# Altium schematic symbol library SCH - MCU - STM32 - ST MICROELECTRONICS STM32F051R4TX LQFP64.SchLib: 1 symbol
Pins are listed as number, name and electrical type; pins without a type are passive.

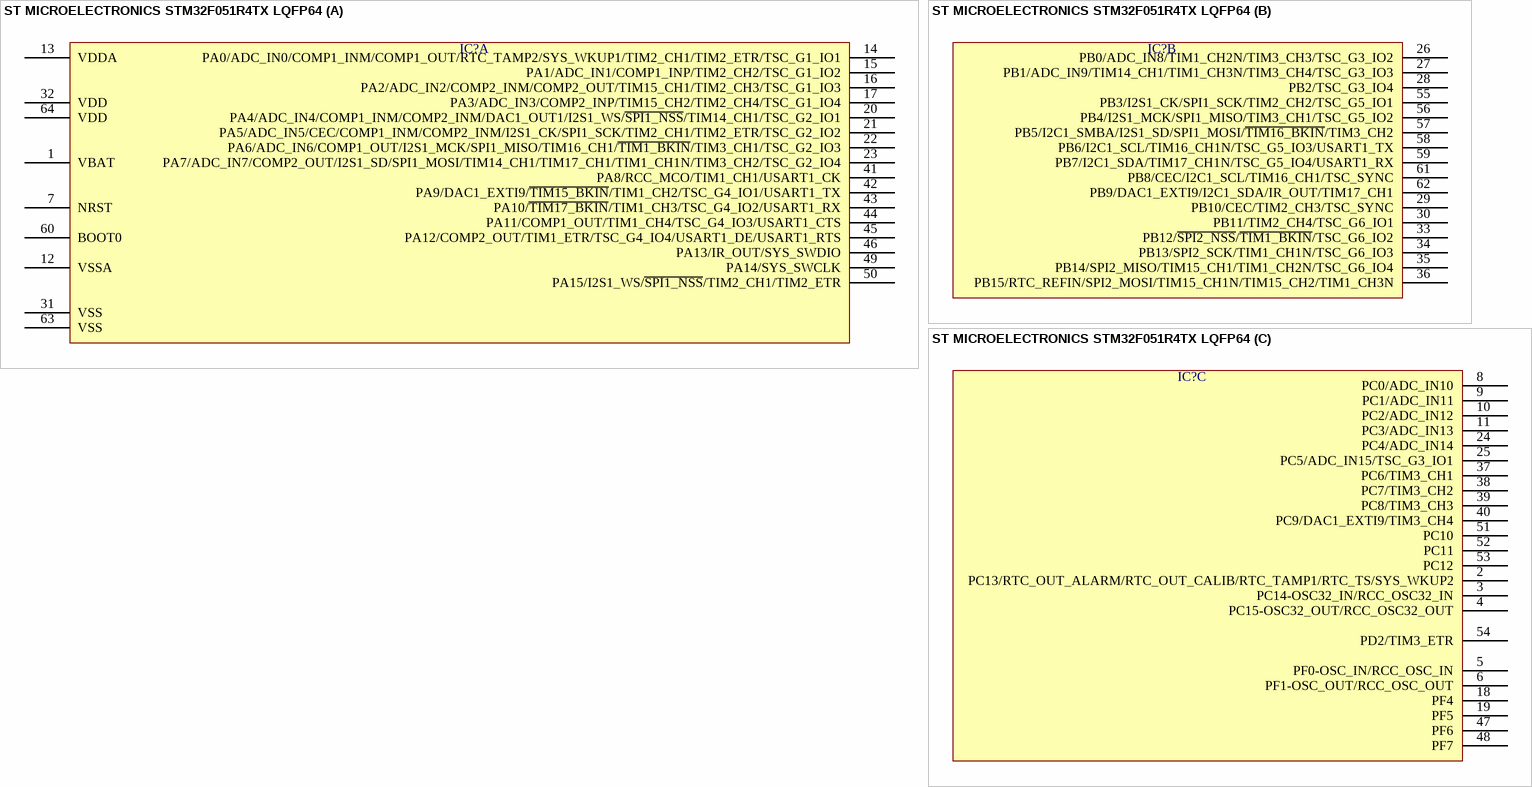
[diagram p0: symbol ST MICROELECTRONICS STM32F051R4TX LQFP64]

## ST MICROELECTRONICS STM32F051R4TX LQFP64
designator IC?  (value not drawn)
part A pins: 1 VBAT, 7 NRST, 12 VSSA, 13 VDDA, 14 PA0/ADC_IN0/COMP1_INM/COMP1_OUT/RTC_TAMP2/SYS_WKUP1/TIM2_CH1/TIM2_ETR/TSC_G1_IO1, 15 PA1/ADC_IN1/COMP1_INP/TIM2_CH2/TSC_G1_IO2, 16 PA2/ADC_IN2/COMP2_INM/COMP2_OUT/TIM15_CH1/TIM2_CH3/TSC_G1_IO3, 17 PA3/ADC_IN3/COMP2_INP/TIM15_CH2/TIM2_CH4/TSC_G1_IO4, 20 PA4/ADC_IN4/COMP1_INM/COMP2_INM/DAC1_OUT1/I2S1_WS/~{SPI1_NSS}/TIM14_CH1/TSC_G2_IO1, 21 PA5/ADC_IN5/CEC/COMP1_INM/COMP2_INM/I2S1_CK/SPI1_SCK/TIM2_CH1/TIM2_ETR/TSC_G2_IO2, 22 PA6/ADC_IN6/COMP1_OUT/I2S1_MCK/SPI1_MISO/TIM16_CH1/~{TIM1_BKIN}/TIM3_CH1/TSC_G2_IO3, 23 PA7/ADC_IN7/COMP2_OUT/I2S1_SD/SPI1_MOSI/TIM14_CH1/TIM17_CH1/TIM1_CH1N/TIM3_CH2/TSC_G2_IO4, 31 VSS, 32 VDD, 41 PA8/RCC_MCO/TIM1_CH1/USART1_CK, 42 PA9/DAC1_EXTI9/~{TIM15_BKIN}/TIM1_CH2/TSC_G4_IO1/USART1_TX, 43 PA10/~{TIM17_BKIN}/TIM1_CH3/TSC_G4_IO2/USART1_RX, 44 PA11/COMP1_OUT/TIM1_CH4/TSC_G4_IO3/USART1_CTS, 45 PA12/COMP2_OUT/TIM1_ETR/TSC_G4_IO4/USART1_DE/USART1_RTS, 46 PA13/IR_OUT/SYS_SWDIO, 49 PA14/SYS_SWCLK, 50 PA15/I2S1_WS/~{SPI1_NSS}/TIM2_CH1/TIM2_ETR, 60 BOOT0, 63 VSS, 64 VDD
part B pins: 26 PB0/ADC_IN8/TIM1_CH2N/TIM3_CH3/TSC_G3_IO2, 27 PB1/ADC_IN9/TIM14_CH1/TIM1_CH3N/TIM3_CH4/TSC_G3_IO3, 28 PB2/TSC_G3_IO4, 29 PB10/CEC/TIM2_CH3/TSC_SYNC, 30 PB11/TIM2_CH4/TSC_G6_IO1, 33 PB12/~{SPI2_NSS}/~{TIM1_BKIN}/TSC_G6_IO2, 34 PB13/SPI2_SCK/TIM1_CH1N/TSC_G6_IO3, 35 PB14/SPI2_MISO/TIM15_CH1/TIM1_CH2N/TSC_G6_IO4, 36 PB15/RTC_REFIN/SPI2_MOSI/TIM15_CH1N/TIM15_CH2/TIM1_CH3N, 55 PB3/I2S1_CK/SPI1_SCK/TIM2_CH2/TSC_G5_IO1, 56 PB4/I2S1_MCK/SPI1_MISO/TIM3_CH1/TSC_G5_IO2, 57 PB5/I2C1_SMBA/I2S1_SD/SPI1_MOSI/~{TIM16_BKIN}/TIM3_CH2, 58 PB6/I2C1_SCL/TIM16_CH1N/TSC_G5_IO3/USART1_TX, 59 PB7/I2C1_SDA/TIM17_CH1N/TSC_G5_IO4/USART1_RX, 61 PB8/CEC/I2C1_SCL/TIM16_CH1/TSC_SYNC, 62 PB9/DAC1_EXTI9/I2C1_SDA/IR_OUT/TIM17_CH1
part C pins: 2 PC13/RTC_OUT_ALARM/RTC_OUT_CALIB/RTC_TAMP1/RTC_TS/SYS_WKUP2, 3 PC14-OSC32_IN/RCC_OSC32_IN, 4 PC15-OSC32_OUT/RCC_OSC32_OUT, 5 PF0-OSC_IN/RCC_OSC_IN, 6 PF1-OSC_OUT/RCC_OSC_OUT, 8 PC0/ADC_IN10, 9 PC1/ADC_IN11, 10 PC2/ADC_IN12, 11 PC3/ADC_IN13, 18 PF4, 19 PF5, 24 PC4/ADC_IN14, 25 PC5/ADC_IN15/TSC_G3_IO1, 37 PC6/TIM3_CH1, 38 PC7/TIM3_CH2, 39 PC8/TIM3_CH3, 40 PC9/DAC1_EXTI9/TIM3_CH4, 47 PF6, 48 PF7, 51 PC10, 52 PC11, 53 PC12, 54 PD2/TIM3_ETR